# EAGLE library part TFT-18-1.0MM (library custom)
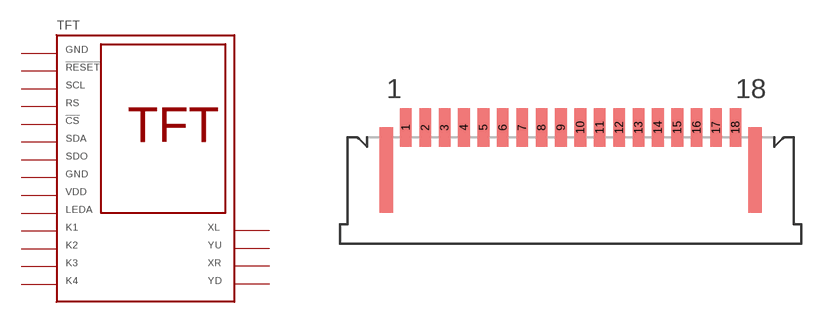
[diagram p2: symbol with the pads of TFT-CONN-18; footprint TFT-CONN-18]

Designator prefix TFT

## TFT-18-1.0MM  [TFT-CONN-18]
1  GND  pwr
2  !RESET  in
3  SCL  in
4  RS  in
5  !CS  in
6  SDA  in
7  SDO  out
8  GND  pwr
9  VDD  pwr
10  LEDA
11  K1
12  K2
13  K3
14  K4
15  XL  in
16  YU  in
17  XR  in
18  YD  in

## Footprint TFT-CONN-18 (pad centres in mm)
smd 0.6 x 2: 1 -9,2; 2 -8,2; 3 -7,2; 4 -6,2; 5 -5,2; 6 -4,2; 7 -3,2; 8 -2,2; 9 -1,2; 10 0,2; 11 1,2; 12 2,2; 13 3,2; 14 4,2; 15 5,2; 16 6,2; 17 7,2; 18 8,2